# EAGLE library part BQ241XX (library m-pad)
Texas Instruments bqSwitcher BQ241xx synchronous switchmode, LI-ION and LI-POL charge management IC with integrated powerfets DESCRIPTION: The bqSWITCHER series are highly integrated Li-ion and Li-polymer switch-mode charge management devices targeted at a wide range of portable applications. The bqSWITCHER series offers integrated synchronous PWM controller and power FETs, high-accuracy current and voltage regulation, charge preconditioning, charge status, and charge termination, in a small, thermally enhanced QFN package. The system-controlled version provides additional inputs for full charge management under system control. The bqSWITCHER charges the battery in three phases: conditioning, constant current, and constant voltage. Charge is terminated based on user-selectable minimum current level. A programmable charge timer provides a safety backup for charge termination. The bqSWITCHER automatically re-starts the charge cycle if the battery voltage falls below an internal threshold. The bqSWITCHER automatically enters sleep mode when VCC supply is removed. FEATURES: Ideal For High-Efficient Charger Designs For Single-, Two- or Three-Cell Li-Ion and Li-Pol Battery Packs Integrated Synchronous Fixed-Frequency PWM Controller Operating at 1.1 MHz with 0 to 100% Duty Cycle Integrated PowerFETs For Up To 2-A Charge Rate High-Accuracy Voltage and Current Regulation Available In Both Stand-Alone (Built-In Charge Management and Control) and System-Controlled (Under System Command) Versions Status Outputs For LED or Host Processor Interface Indicates Charge-In-Progress, Charge Completion, Fault, and AC-Adapter Present Conditions 20-V Maximum Voltage Rating on IN and OUT Pins High-Side Current Sensing Optional Battery Temperature Monitoring Automatic Sleep Mode for Low Power Consumption System-Controlled Version Can Be Used In NiMH and NiCd Applications Uses Ceramic Capacitors Reverse Leakage Protection Prevents Battery Drainage Thermal Shutdown and Protection Built-In Battery Detection APPLICATIONS: Handheld Products Portable Media Players Industrial and Medical Equipment Portable Equipment Please send any comments to: messi@users.sourceforge.net
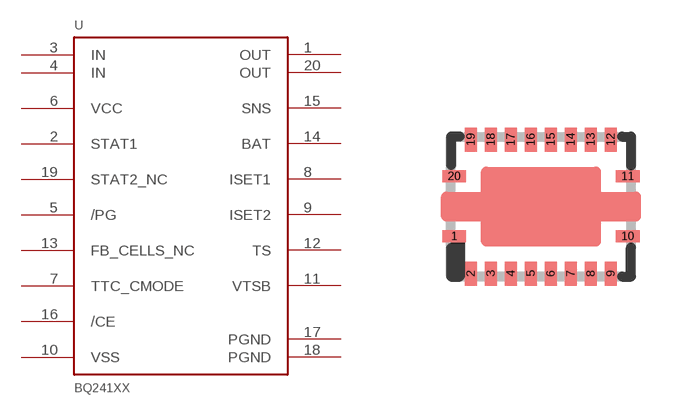
[diagram p10: symbol with the pads of QFN-20; footprint QFN-20]

Designator prefix U

## BQ241XX  [QFN-20]
1  OUT  out
2  STAT1  out
3  IN  in
4  IN  in
5  /PG  out
6  VCC  pwr
7  TTC_CMODE  in
8  ISET1
9  ISET2
10  VSS  pwr
11  VTSB  out
12  TS  in
13  FB_CELLS_NC  in
14  BAT  in
15  SNS  in
16  /CE  in
17  PGND  pwr
18  PGND  pwr
19  STAT2_NC  out
20  OUT  pas

## Footprint QFN-20 (pad centres in mm)
TI bqSwitcher battery chargers BQ241xx (central pad is ground)
smd 0.6 x 0.3: 1 -2.17,-0.745; 10 2.17,-0.745; 11 2.17,0.755; 20 -2.17,0.755
smd 0.3 x 0.6: 2 -1.75,-1.675; 3 -1.25,-1.675; 4 -0.75,-1.675; 5 -0.25,-1.675; 6 0.25,-1.675; 7 0.75,-1.675; 8 1.25,-1.675; 9 1.75,-1.675; 12 1.75,1.675; 13 1.25,1.675; 14 0.75,1.675; 15 0.25,1.675; 16 -0.25,1.675; 17 -0.75,1.675; 18 -1.25,1.675; 19 -1.75,1.675